# Altium schematic symbol library Passivos_Sche.SchLib: 12 symbols
Pins are listed as number, name and electrical type; pins without a type are passive.

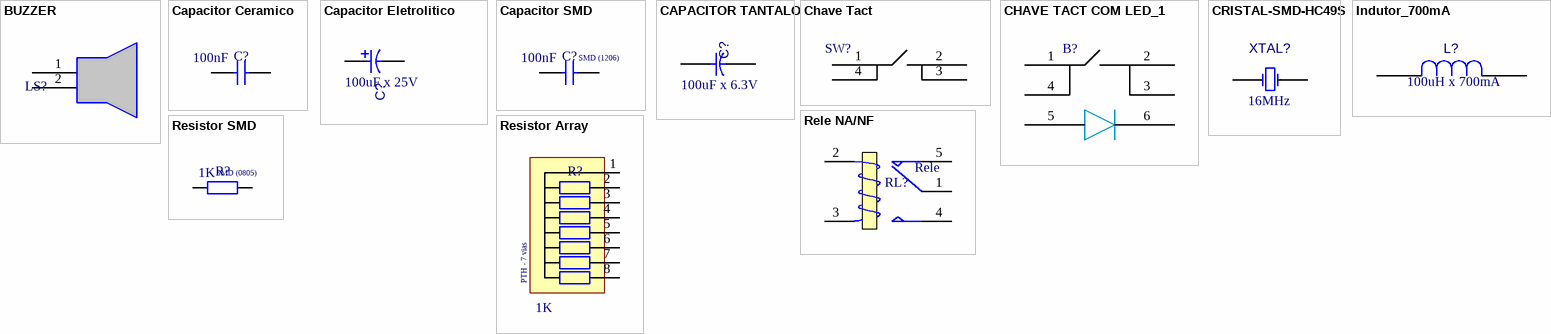
[diagram p0: symbols BUZZER to Resistor SMD]

## BUZZER
designator LS?  (value not drawn)
DC Buzzer; Descrição: BUZZER 5V; Encapsulamento: PTH; Marca: *; Modelo: *; Observação: *
footprint Buzzer
pins: 1, 2

## Capacitor Ceramico
designator C?  Valor: 100nF  (hidden comment: *)
Capacitor PTH; Descrição: Capacitor Ceramico; Marca: *; Modelo: *; Observação: *; Encapsulamento: PTH
footprint Capacitor Ceramico
footprint CAPACITOR CERAMICO-GORDO
pins: 1, 2

## Capacitor Eletrolitico
designator C?  Valor: 100uF x 25V  (hidden comment: Capacitor Eletrolitico)
Descrição: Capacitor Eletrolitico PTH; Encapsulamento: PTH Radia Xmm x Ymm; Marca: *; Modelo: *; Observação: *
footprint CAPACITOR ELETROLITICO 5x11x2.54mm (Radial Capacitor 5x11x2.54mm)
footprint CAPACITOR ELETROLITICO 4x5x1.6mm (Radial Capacitor 4x5x1.5mm)
footprint CAPACITOR ELETROLITICO 6,3x11x2.54mm (Radial Capacitor 6,35x11x2.54mm)
footprint CAPACITOR ELETROLITICO 8x11x3.5mm (Radial Capacitor 8x11x3.5mm)
footprint CAPACITOR ELETROLITICO 10x12.5x5.08mm (Radial Capacitor 10x12x5.08mm)
footprint CAPACITOR ELETROLITICO 10x16x5.08mm (Radial Capacitor 10x16x5.08mm)
footprint CAPACITOR ELETROLITICO 10x20x5.08mm (Radial Capacitor 10x20x5.08mm)
footprint CAPACITOR ELETROLITICO 12.5x20x5.08mm (Radial Capacitor 12.5x20x5.08mm)
footprint CAPACITOR ELETROLITICO 12.5x25x5.08mm (Radial Capacitor 12.5x25x5.08mm)
footprint CAPACITOR ELETROLITICO 16x25x7.62mm (Radial Capacitor 16x25x7.62mm)
footprint CAPACITOR ELETROLITICO 16x31.5x7.62mm - duplicate (Radial Capacitor 16x31.5x7.62mm)
footprint CAPACITOR ELETROLITICO SMD
pins: 1 PLUS, 2 MINUS

## Capacitor SMD
designator C?  Valor: 100nF  Encapsulamento: SMD (1206)  (hidden comment: *)
Capacitor SMD; Descrição: Capacitor SMD; Marca: *; Modelo: *; Observação: *
footprint CAP_0603
footprint CAP_0805
footprint CAP_1206
footprint CAP_0402 (Chip Capacitor, Body 1.0x0.5mm, IPC High Density)
pins: 1, 2

## CAPACITOR TANTALO
designator C?  Valor: 100uF x 6.3V  (hidden comment: CAPACITOR TANTALO)
CAPACITOR TANTALO Case B; Descrição: Capacitor de Tantalo; Encapsulamento: SMD Case B; Marca: *; Modelo: *; Observação: *
footprint CASE B (Capacitor Tantalum; Body 3.5 x 2.8 mm)
pins: 1, 2

## Chave Tact
designator SW?  (value not drawn)
Chave Tact; Descrição: Chave Tact 6x6x5mm; Encapsulamento: PTH; Marca: *; Modelo: *; Observação: *
footprint Chave TACT
pins: 1, 2, 3, 4

## CHAVE TACT COM LED_1
designator B?  (value not drawn)
CHAVE TACT COM LED; Descrição: Chave TACT 6x6x7mm com LED; Encapsulamento: PTH; Marca: *; Modelo: *; Observação: *
footprint CHAVE TACT SMD COM LED2
pins: 1, 2, 3, 4, 5, 6

## CRISTAL-SMD-HC49S
designator XTAL?  Valor: 16MHz  (hidden comment: CRISTAL-SMD-HC49S)
Descrição: Cristal Oscilador; Encapsulamento: SMD HC49S; Marca: *; Modelo: *; Observação: *
footprint Cristal HC49S
pins: 1 OSC1, 2 OSC2

## Indutor_700mA
designator L?  Valor: 100uH x 700mA  (hidden comment: Indutor_700mA)
IND200-CIRC; Descrição: Indutor Carretel PTH; Encapsulamento: PTH - Radial; Marca: *; Modelo: *; Observação: *
footprint INDUTOR RADIAL 10.5MM
footprint INDUTOR RADIAL 11.3MM
pins: 1, 2

## Rele NA/NF
designator RL?, comment Rele
Descrição: Rele Ultraminiatura reversivel; Encapsulamento: PTH; Marca: Metatex; Modelo: MA1RC2; Valor: *; Observação: *
footprint Rele MA1RC2 - Metaltex
pins: 1 COM, 2 T1, 3 T2, 4 NO, 5 NC

## Resistor Array
designator R?  Valor: 1K  Encapsulamento: PTH - 7 vias  (hidden comment: *)
Matriz de Resistor; Descrição: Matriz de Resistor; Marca: *; Modelo: *; Observação: *
footprint RESISTOR-ARRAY-8pins
pins: 1, 2, 3, 4, 5, 6, 7, 8

## Resistor SMD
designator R?  Valor: 1K  Encapsulamento: SMD (0805)  (hidden comment: *)
Resistor SMD; Descrição: Resistor SMD 5%; Marca: *; Modelo: *; Observação: *
footprint RES_0603
footprint RES_0805
footprint RES_1206
footprint RES_2512
footprint RES_0402 (Chip Resistor, Body 1.0x0.5mm, IPC High Density)
footprint RES_2010
pins: 1, 2